# Altium schematic symbol library TEA1721AT.SchLib: 1 symbol
Pins are listed as number, name and electrical type; pins without a type are passive.

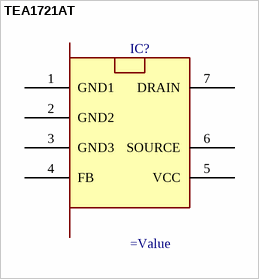
[diagram p0: symbol TEA1721AT]

## TEA1721AT
designator IC?
=Description
footprint TEA1721AT (AC/DC Converters 15-19V 53KHz 78%)
pins: 1 GND1, 2 GND2, 3 GND3, 4 FB, 5 VCC, 6 SOURCE, 7 DRAIN